# Altium footprint library Library.PcbLib: 12 footprints
Each footprint in its own frame and in the unit in brackets; x right, y up, seen from the top. Pads: shape width x height; smd on the part's side, far side on the other; paste and mask are expansions set on the pad; w line width, h text height; cw(c..) or ccw(c..) is an arc to the next point about the centre after c.
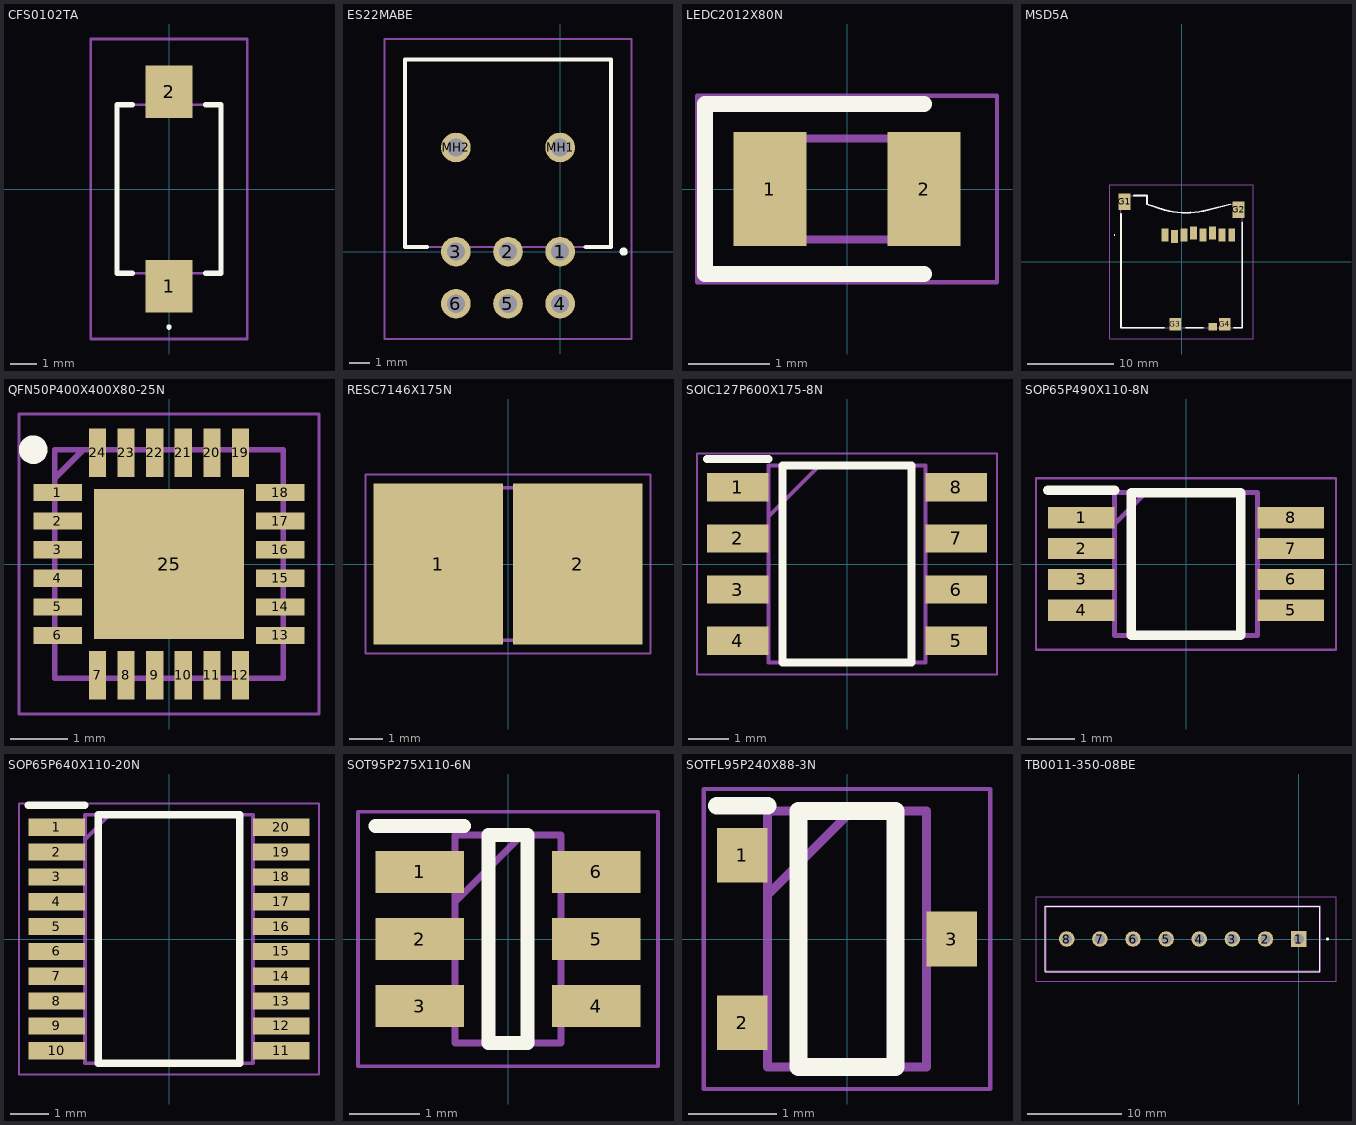
[diagram p0: the footprints below, top view; thin cyan lines are the x and y axes]

## CFS0102TA [mm]
pads (2):
  rect 1.8x2 smd: 1(0,-3.7) 2(0,3.7)
Top Overlay:
  lines w0.1: 0,-5.3 ccw(c0,-5.25) 0,-5.2 ccw(c0,-5.25) 0,-5.3
  lines w0.2: -1.4,-3.2 -1.975,-3.2 -1.975,3.2 -1.4,3.2 ; 1.4,-3.2 1.975,-3.2 1.975,3.2 1.4,3.2
Mechanical 13:
  lines w0.1: -1.975,-3.2 -1.975,3.2 1.975,3.2 1.975,-3.2 -1.975,-3.2
Mechanical 15:
  lines w0.1: -2.975,-5.7 -2.975,5.7 2.975,5.7 2.975,-5.7 -2.975,-5.7
3D body "CFS-0102TA.stp": height 4.5, standoff 0, extent -1.975,-3.9 1.975,3.9

## ES22MABE [mm]
pads (8):
  round 1.446 hole 0.89: 1(0,0) 2(-2.54,0) 3(-5.08,0) 4(0,-2.54) 5(-2.54,-2.54) 6(-5.08,-2.54) MH1(0,5.08) MH2(-5.08,5.08)
Top Overlay:
  lines w0.2: -7.555,9.37 -7.555,0.25 -7.555,9.37 ; -7.555,9.37 2.475,9.37 ; -7.555,9.37 2.475,9.37 ; 2.475,0.23 2.475,9.37 ; 2.475,0.23 2.475,9.37 ; 2.475,0.23 1.25,0.23 2.475,0.23 ; 3,0 ccw(c3.1,0) 3.2,0 ; 3,0 cw(c3.1,0) 3.2,0 ; 3,0 ccw(c3.1,0) 3.2,0 ; -7.555,0.23 -6.5,0.23 -7.555,0.23
Mechanical 13:
  lines w0.1: -7.555,0.23 -7.555,9.37 2.475,9.37 2.475,0.23 -7.555,0.23
Mechanical 15:
  lines w0.1: -8.555,-4.263 -8.555,10.37 3.475,10.37 3.475,-4.263 -8.555,-4.263
3D body "ES22MABE.stp": height 6.48, standoff -5, extent -7.555,-2.882 2.475,9.37

## LEDC2012X80N [mm]
pads (2):
  rect 0.9x1.4 smd: 1(-0.95,0) 2(0.95,0)
Top Overlay:
  lines w0.2: 0.95,-1.05 -1.75,-1.05 -1.75,1.05 0.95,1.05
Mechanical 13:
  lines w0.1: -1,0.208 -0.583,0.625 ; -1,-0.625 -1,0.625 1,0.625 1,-0.625 -1,-0.625
Mechanical 15:
  lines w0.05: -1.85,-1.15 -1.85,1.15 1.85,1.15 1.85,-1.15 -1.85,-1.15
3D body "LG_R971-KN-1.stp": height 0.83, standoff 0.03, extent -1,-0.65 1,0.65

## MSD5A [mm]
pads (13):
  rect 1.4x1.9 smd: G1(-6.575,6.925) G2(6.575,5.955)
  rect 1.3x1.4 smd: G3(-0.725,-7.225) G4(4.975,-7.225)
  rect 0.8x1.5 smd: P1(-1.925,3.075) P2(-0.825,2.875) P3(0.275,3.075) P4(1.375,3.275) P5(2.475,3.075) P6(3.575,3.275) P7(4.675,3.075) P8(5.775,3.075)
  rect 1x0.85 smd: P9(3.585,-7.5)
Top Overlay:
  lines w0.1: -7.8,3.075 cw(c-7.75,3.075) -7.7,3.075 cw(c-7.75,3.075) -7.8,3.075
  lines w0.2: -7,5.5 -7,-7.62 -2,-7.625 ; -5.5,7.625 -4,7.625 -4,6.625 -2,5.955 ; -1.991,5.953 ccw(c0.5,15.656) 3.009,5.957 ; 0.5,-7.625 2.475,-7.62 ; 3,5.955 5.6,6.625 ; 6,-7.625 7,-7.62 7,4.5
Mechanical 13:
  lines w0.1: -2,5.955 -4,6.625 -4,7.625 -7,7.625 -7,-7.625 0,-7.625 ; -1.991,5.953 ccw(c0.5,15.656) 3.009,5.957 ; 0,-7.62 7,-7.625 7,6.625 5.6,6.625 3,5.955
Mechanical 15:
  lines w0.1: -8.275,-8.925 -8.275,8.875 8.275,8.875 8.275,-8.925 -8.275,-8.925
3D body "MSD-5-A.stp": height 1.96, standoff -0.02, extent -7.038,-7.725 7.112,7.725

## QFN50P400X400X80-25N [mm]
pads (25):
  rect 0.85x0.3 smd: 1(-1.95,1.25) 2(-1.95,0.75) 3(-1.95,0.25) 4(-1.95,-0.25) 5(-1.95,-0.75) 6(-1.95,-1.25) 13(1.95,-1.25) 14(1.95,-0.75) 15(1.95,-0.25) 16(1.95,0.25) 17(1.95,0.75) 18(1.95,1.25)
  rect 0.3x0.85 smd: 7(-1.25,-1.95) 8(-0.75,-1.95) 9(-0.25,-1.95) 10(0.25,-1.95) 11(0.75,-1.95) 12(1.25,-1.95) 19(1.25,1.95) 20(0.75,1.95) 21(0.25,1.95) 22(-0.25,1.95) 23(-0.75,1.95) 24(-1.25,1.95)
  rect 2.63x2.63 smd: 25(0,0)
Top Overlay:
  circle w0.25: c-2.375,2 r0.125
Mechanical 13:
  lines w0.1: -2,1.5 -1.5,2 ; -2,-2 -2,2 2,2 2,-2 -2,-2
Mechanical 15:
  lines w0.05: -2.625,-2.625 -2.625,2.625 2.625,2.625 2.625,-2.625 -2.625,-2.625
3D body "MAX17320G20+.stp": height 0.8, standoff 0, extent -2.05,-2.05 2.05,2.05

## RESC7146X175N [mm]
pads (2):
  rect 3.9x4.85 smd: 1(-2.1,0) 2(2.1,0)
Mechanical 13:
  lines w0.1: -3.55,-2.3 -3.55,2.3 3.55,2.3 3.55,-2.3 -3.55,-2.3
Mechanical 15:
  lines w0.05: -4.3,-2.7 -4.3,2.7 4.3,2.7 4.3,-2.7 -4.3,-2.7
3D body "WSHP28185L000FEA.stp": height 1.5, standoff 0, extent -3.548,-2.3 3.548,2.3

## SOIC127P600X175-8N [mm]
pads (8):
  rect 1.525x0.7 smd: 1(-2.712,1.905) 2(-2.712,0.635) 3(-2.712,-0.635) 4(-2.712,-1.905) 5(2.712,-1.905) 6(2.712,-0.635) 7(2.712,0.635) 8(2.712,1.905)
Top Overlay:
  lines w0.2: -3.475,2.605 -1.95,2.605 ; -1.6,-2.45 -1.6,2.45 1.6,2.45 1.6,-2.45 -1.6,-2.45
Mechanical 13:
  lines w0.1: -1.95,1.18 -0.68,2.45 ; -1.95,-2.45 -1.95,2.45 1.95,2.45 1.95,-2.45 -1.95,-2.45
Mechanical 15:
  lines w0.05: -3.725,-2.75 -3.725,2.75 3.725,2.75 3.725,-2.75 -3.725,-2.75
3D body "IRF7313TRPBFXTMA1.stp": height 1.75, standoff 0, extent -3,-2.45 3,2.45

## SOP65P490X110-8N [mm]
pads (8):
  rect 1.4x0.45 smd: 1(-2.2,0.975) 2(-2.2,0.325) 3(-2.2,-0.325) 4(-2.2,-0.975) 5(2.2,-0.975) 6(2.2,-0.325) 7(2.2,0.325) 8(2.2,0.975)
Top Overlay:
  lines w0.2: -2.9,1.55 -1.5,1.55 ; -1.15,-1.5 1.15,-1.5 1.15,1.5 -1.15,1.5 -1.15,-1.5
Mechanical 15:
  lines w0.1: -1.5,0.85 -0.85,1.5 ; -1.5,-1.5 1.5,-1.5 1.5,1.5 -1.5,1.5 -1.5,-1.5
Mechanical 20:
  lines w0.05: -3.15,-1.8 3.15,-1.8 3.15,1.8 -3.15,1.8 -3.15,-1.8
3D body "TMAG5170A2EDGKRQ1.stp": height 1.1, standoff 0, extent -2.451,-1.499 2.451,1.499

## SOP65P640X110-20N [mm]
pads (20):
  rect 1.475x0.45 smd: 1(-2.938,2.925) 2(-2.938,2.275) 3(-2.938,1.625) 4(-2.938,0.975) 5(-2.938,0.325) 6(-2.938,-0.325) 7(-2.938,-0.975) 8(-2.938,-1.625) 9(-2.938,-2.275) 10(-2.938,-2.925) 11(2.938,-2.925) 12(2.938,-2.275) 13(2.938,-1.625) 14(2.938,-0.975) 15(2.938,-0.325) 16(2.938,0.325) 17(2.938,0.975) 18(2.938,1.625) 19(2.938,2.275) 20(2.938,2.925)
Top Overlay:
  lines w0.2: -3.675,3.5 -2.2,3.5 ; -1.85,-3.25 -1.85,3.25 1.85,3.25 1.85,-3.25 -1.85,-3.25
Mechanical 13:
  lines w0.1: -2.2,2.6 -1.55,3.25 ; -2.2,-3.25 -2.2,3.25 2.2,3.25 2.2,-3.25 -2.2,-3.25
Mechanical 15:
  lines w0.05: -3.925,-3.55 -3.925,3.55 3.925,3.55 3.925,-3.55 -3.925,-3.55
3D body "74AHCT245APWJ.stp": height 1.08, standoff 0.08, extent -3.213,-3.199 3.209,3.301

## SOT95P275X110-6N [mm]
pads (6):
  rect 1.25x0.6 smd: 1(-1.25,0.95) 2(-1.25,0) 3(-1.25,-0.95) 4(1.25,-0.95) 5(1.25,0) 6(1.25,0.95)
Top Overlay:
  lines w0.2: -1.875,1.6 -0.625,1.6 ; -0.275,-1.475 -0.275,1.475 0.275,1.475 0.275,-1.475 -0.275,-1.475
Mechanical 13:
  lines w0.1: -0.75,0.525 0.2,1.475 ; -0.75,-1.475 -0.75,1.475 0.75,1.475 0.75,-1.475 -0.75,-1.475
Mechanical 15:
  lines w0.05: -2.125,-1.8 -2.125,1.8 2.125,1.8 2.125,-1.8 -2.125,-1.8
3D body "FDC608PZ.stp": height 1.18, standoff 0, extent -1.4,-1.45 1.4,1.45

## SOTFL95P240X88-3N [mm]
pads (3):
  rect 0.575x0.62 smd: 1(-1.188,0.95) 2(-1.188,-0.95) 3(1.188,0)
Top Overlay:
  lines w0.2: -1.475,1.51 -0.9,1.51 ; -0.55,-1.45 -0.55,1.45 0.55,1.45 0.55,-1.45 -0.55,-1.45
Mechanical 13:
  lines w0.1: -0.9,0.5 0.05,1.45 ; -0.9,-1.45 -0.9,1.45 0.9,1.45 0.9,-1.45 -0.9,-1.45
Mechanical 15:
  lines w0.05: -1.625,-1.7 -1.625,1.7 1.625,1.7 1.625,-1.7 -1.625,-1.7
3D body "SSM3J378R,LXHF.stp": height 0.8, standoff 0, extent -1.2,-1.45 1.2,1.45

## TB0011-350-08BE [mm]
pads (8):
  rect 1.65x1.65 hole 1.1: 1(0,0)
  round 1.65 hole 1.1: 2(-3.5,0) 3(-7,0) 4(-10.5,0) 5(-14,0) 6(-17.5,0) 7(-21,0) 8(-24.5,0)
Top Overlay:
  circle w0.2: c3.05,0 r0.05
  lines w0.1: -26.75,-3.45 2.25,-3.45 2.25,3.45 -26.75,3.45 -26.75,-3.45
Mechanical 13:
  lines w0.2: -26.75,-3.45 2.25,-3.45 2.25,3.45 -26.75,3.45 -26.75,-3.45
Mechanical 15:
  lines w0.05: -27.75,-4.45 3.95,-4.45 3.95,4.45 -27.75,4.45 -27.75,-4.45
3D body "TB0011-350-08BE.stp": height 8.5, standoff -3.4, extent -26.82,-3.45 2.18,3.45